# Altium integrated library TI Interface Optical Module IC.IntLib: 48 symbols (part 2 of 4)
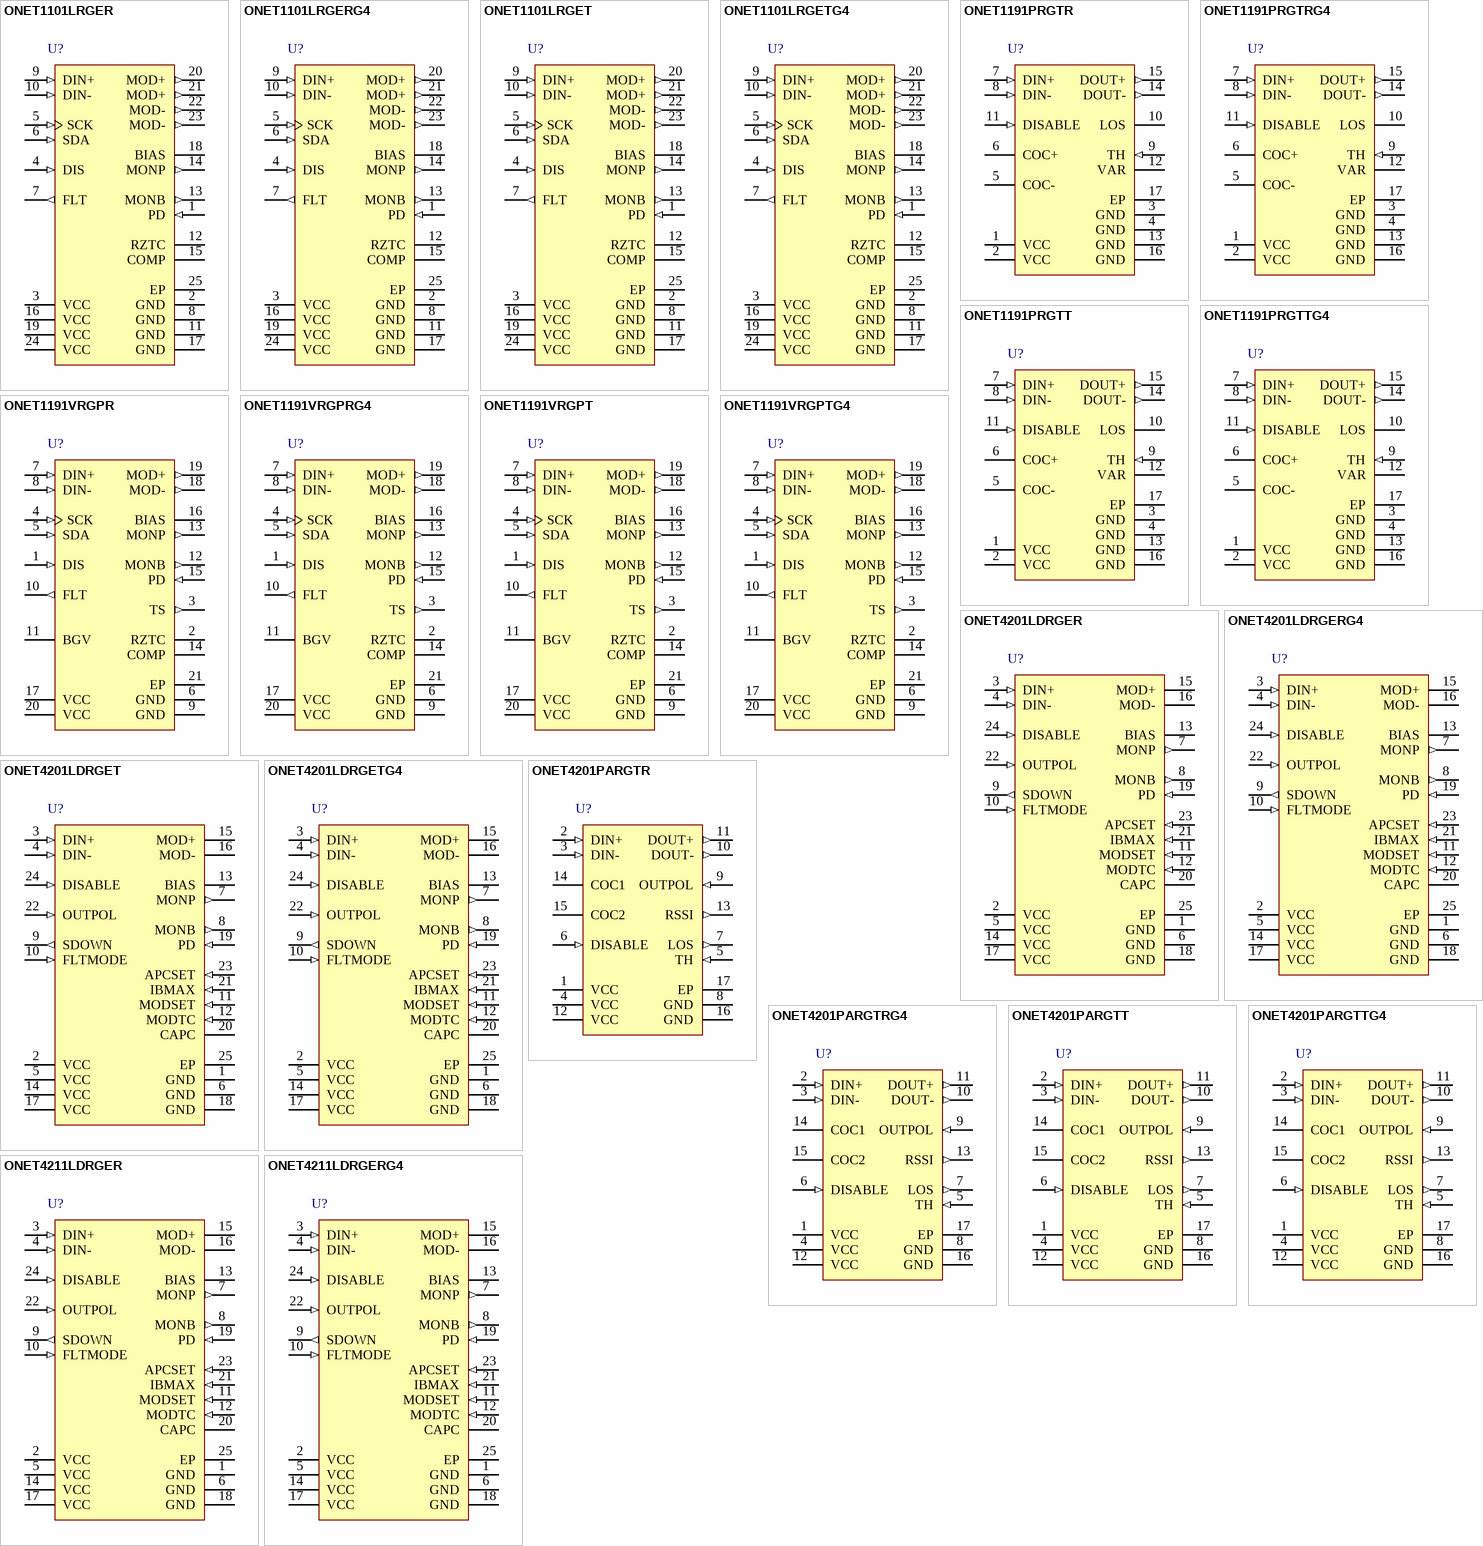
[diagram p2: symbols ONET1101LRGER to ONET4211LDRGERG4]

## ONET4201LDRGET
designator U?
155 Mbps to 4.25 Gbps Laser Driver with Active Back Termination, 85 mA Imod-Max, 3.3 V, -40 to +85 degC, 24-pin VQFN (RGE), Green (RoHS & no Sb/Br); Manufacturer: Texas Instruments; PartNumber: ONET4201LDRGET; Automatic Power Control Loop: TRUE; Data Rate(Typ)(Gbps): 0.155 to 4.25; DJ(Typ)(ps): 13; Ibias-max(Max)(mA): 100; ICC(Max)(mA): 55; ICC(Typ)(mA): 32; Imod-max(Max)(mA): 85; VCC(V): 3.3; DatasheetVersion: SLLS677A; PackageVersion: revG, Jul-2011; PackageReference: RGE24-2450X2450TP; PackageDescription: 24-Pin Plastic Quad Flatpack No-Lead, 4 x 4 mm Body, 0.5 mm Pitch; Supplier 1: Digi-Key; Supplier Part Number 1: 296-19278-2-ND; Supplier 2: Digi-Key; Supplier Part Number 2: 296-19278-1-ND; Supplier 3: Digi-Key; Supplier Part Number 3: 296-19278-6-ND; Supplier 4: Newark; Supplier Part Number 4: 67K8165; Supplier 5: Mouser; Supplier Part Number 5: 595-ONET4201LDRGET; Bias Current Digital Select: TRUE; Eco-Plan: Green (RoHS & no Sb/Br); Modulation Current Digital Select: TRUE; SubFamily: Laser Driver; Tf-out(Typ)(ps): 55; Tr-out(Typ)(ps): 55; Mounting Technology: Surface Mount; Code_JEDEC: MO-220; ComponentLink1Description: Datasheet; ComponentLink1URL: http://www.ti.com/general/docs/lit/getliterature.tsp?genericPartNumber=ONET4201LD&fileType=pdf; ComponentLink2Description: URL Link1; ComponentLink2URL: SamplesURL:http://www.ti.com/product/onet4201ld#samples
footprint RGE24-2450X2450TP (QFN, 24-Leads, Body 4x4mm, Pitch 0.5mm, Thermal Pad 2.45x2.45mm, TI Recommended)
pins: 1 GND (power) "Circuit ground.", 2 VCC (power) "3.3 V +/-10% supply voltage.", 3 DIN+ (in) "Noninverted data input. On-chip, 50-ohm terminated to VCC.", 4 DIN- (in) "Inverted data input. On-chip, 50-ohm terminated to VCC.", 5 VCC (power) "3.3 V +/-10% supply voltage.", 6 GND (power) "Circuit ground.", 7 MONP (out) "Photodiode current monitor sources a current identical to the photodiode current.", 8 MONB (out) "Bias current monitor sources 1/68 of the bias current.", 9 SDOWN (out) "Fault detection flag.", 10 FLTMODE (in) "Fault mode selection input. If a low level is applied to this pin, any fault event is latched and the bias and modulation currents are disabled in a fault condition. Toggling of DISABLE or VCC resets the fault condition. If (See Datasheet)", 11 MODSET (in) "Set temperature-independent modulation current with resistor to GND.", 12 MODTC (in) "Set modulation-current temperature compensation with resistor to GND.", 13 BIAS "Laser diode bias current sink. Connect to laser cathode.", 14 VCC (power) "3.3 V +/-10% supply voltage.", 15 MOD+ (oc) "Laser modulation current output. Connect to laser cathode. Avoid usage of vias on board.", 16 MOD- (oc) "Complementary laser modulation current output. Connect to VCC adjacent to anode of laser diode. Avoid usage of vias on board.", 17 VCC (power) "3.3 V +/-10% supply voltage.", 18 GND (power) "Circuit ground.", 19 PD (in) "Monitor photodiode input. Connect to photodiode anode for APC. Sinks the photodiode current to GND.", 20 CAPC "APC loop capacitor.", 21 IBMAX (in) "Set maximum laser diode current with resistor to GND.", 22 OUTPOL (in) "Alters modulation current output polarity. Open or high: normal polarity, low: inverted polarity. OUTPOL is pulled up internally. Normal polarity: when DIN+ is high, current is sunk into MOD+.", 23 APCSET (in) "Set photodiode reference current with resistor to GND.", 24 DISABLE (in) "Disable modulation and bias current outputs.", 25 EP (power) "The exposed die pad (EP) must be grounded."

## ONET4201LDRGETG4
designator U?
155 Mbps to 4.25 Gbps Laser Driver with Active Back Termination, 85 mA Imod-Max, 3.3 V, -40 to +85 degC, 24-pin VQFN (RGE), Green (RoHS & no Sb/Br); Manufacturer: Texas Instruments; PartNumber: ONET4201LDRGETG4; Automatic Power Control Loop: TRUE; Data Rate(Typ)(Gbps): 0.155 to 4.25; DJ(Typ)(ps): 13; Ibias-max(Max)(mA): 100; ICC(Max)(mA): 55; ICC(Typ)(mA): 32; Imod-max(Max)(mA): 85; VCC(V): 3.3; DatasheetVersion: SLLS677A; PackageVersion: revG, Jul-2011; PackageReference: RGE24-2450X2450TP; PackageDescription: 24-Pin Plastic Quad Flatpack No-Lead, 4 x 4 mm Body, 0.5 mm Pitch; Supplier 1: Digi-Key; Supplier Part Number 1: ONET4201LDRGETG4-ND; Supplier 2: Newark; Supplier Part Number 2: 70K4060; Supplier 3: Mouser; Supplier Part Number 3: 595-ONET4201LDRGETG4; Bias Current Digital Select: TRUE; Eco-Plan: Green (RoHS & no Sb/Br); Modulation Current Digital Select: TRUE; SubFamily: Laser Driver; Tf-out(Typ)(ps): 55; Tr-out(Typ)(ps): 55; Mounting Technology: Surface Mount; Code_JEDEC: MO-220; ComponentLink1Description: Datasheet; ComponentLink1URL: http://www.ti.com/general/docs/lit/getliterature.tsp?genericPartNumber=ONET4201LD&fileType=pdf; ComponentLink2Description: URL Link1; ComponentLink2URL: SamplesURL:http://www.ti.com/product/onet4201ld#samples
footprint RGE24-2450X2450TP (QFN, 24-Leads, Body 4x4mm, Pitch 0.5mm, Thermal Pad 2.45x2.45mm, TI Recommended)
pins: 1 GND (power) "Circuit ground.", 2 VCC (power) "3.3 V +/-10% supply voltage.", 3 DIN+ (in) "Noninverted data input. On-chip, 50-ohm terminated to VCC.", 4 DIN- (in) "Inverted data input. On-chip, 50-ohm terminated to VCC.", 5 VCC (power) "3.3 V +/-10% supply voltage.", 6 GND (power) "Circuit ground.", 7 MONP (out) "Photodiode current monitor sources a current identical to the photodiode current.", 8 MONB (out) "Bias current monitor sources 1/68 of the bias current.", 9 SDOWN (out) "Fault detection flag.", 10 FLTMODE (in) "Fault mode selection input. If a low level is applied to this pin, any fault event is latched and the bias and modulation currents are disabled in a fault condition. Toggling of DISABLE or VCC resets the fault condition. If (See Datasheet)", 11 MODSET (in) "Set temperature-independent modulation current with resistor to GND.", 12 MODTC (in) "Set modulation-current temperature compensation with resistor to GND.", 13 BIAS "Laser diode bias current sink. Connect to laser cathode.", 14 VCC (power) "3.3 V +/-10% supply voltage.", 15 MOD+ (oc) "Laser modulation current output. Connect to laser cathode. Avoid usage of vias on board.", 16 MOD- (oc) "Complementary laser modulation current output. Connect to VCC adjacent to anode of laser diode. Avoid usage of vias on board.", 17 VCC (power) "3.3 V +/-10% supply voltage.", 18 GND (power) "Circuit ground.", 19 PD (in) "Monitor photodiode input. Connect to photodiode anode for APC. Sinks the photodiode current to GND.", 20 CAPC "APC loop capacitor.", 21 IBMAX (in) "Set maximum laser diode current with resistor to GND.", 22 OUTPOL (in) "Alters modulation current output polarity. Open or high: normal polarity, low: inverted polarity. OUTPOL is pulled up internally. Normal polarity: when DIN+ is high, current is sunk into MOD+.", 23 APCSET (in) "Set photodiode reference current with resistor to GND.", 24 DISABLE (in) "Disable modulation and bias current outputs.", 25 EP (power) "The exposed die pad (EP) must be grounded."

## ONET4201PARGTR
designator U?
155 Mbps to 4.25 Gbps Limiting Amplifier with LOS and RSSI, 50dB, -40 to 85 degC, 16-Pin QFN (RGT), Green (RoHS & no Sb/Br); Manufacturer: Texas Instruments; PartNumber: ONET4201PARGTR; Data Rate(Typ)(Gbps): 0.155 - 4.25; Disable: TRUE; DJ(Typ)(ps): 3; Gain(Typ)(dB): 50; ICC(Max)(mA): 45; ICC(Nom)(mA): 27; RJ(Max)(ps): 4; VCC(V): 3.3; Vin Max(Min)(mV p-p): 1200; Vin Min(Nom)(mV p-p): 5; DatasheetVersion: SLLS652; PackageVersion: revH, Oct-2011; PackageReference: RGT16-1450X1450TP; PackageDescription: 16-Pin Plastic Quad Flat No-Lead, 3 x 3 mm Body, 0.5 mm Pitch, 1.45 x 1.45 mm Exposed Pad; Supplier 1: Digi-Key; Supplier Part Number 1: 296-19279-2-ND; Supplier 2: Digi-Key; Supplier Part Number 2: 296-19279-1-ND; Supplier 3: Digi-Key; Supplier Part Number 3: 296-19279-6-ND; Supplier 4: Newark; Supplier Part Number 4: 70K4061; Supplier 5: Mouser; Supplier Part Number 5: 595-ONET4201PARGTR; Eco-Plan: Green (RoHS & no Sb/Br); LOS: TRUE; SubFamily: Limiting Amplifier; tf(Typ)(ps): 45; tr(Typ)(ps): 45; Mounting Technology: Surface Mount; Code_JEDEC: MO-220; ComponentLink1Description: Datasheet; ComponentLink1URL: http://www.ti.com/general/docs/lit/getliterature.tsp?genericPartNumber=ONET4201PA&fileType=pdf; ComponentLink2Description: URL Link1; ComponentLink2URL: SamplesURL:http://www.ti.com/product/onet4201pa#samples
footprint RGT16-1450X1450TP (QFN, 16-Leads, Body 3x3mm, Pitch 0.5mm, Thermal Pad 1.45x1.45mm, TI Recommended)
pins: 1 VCC (power) "3.3-V +/- 10% supply voltage", 2 DIN+ (in) "Non-inverted data input. On-chip 50-ohm terminated to VCC.", 3 DIN- (in) "Inverted data input. On-chip 50-ohm terminated to VCC.", 4 VCC (power) "3.3-V +/- 10% supply voltage", 5 TH (in) "LOS threshold adjustment with resistor to GND.", 6 DISABLE (in) "Disables CML output stage when set to high level.", 7 LOS (out) "High level indicates that the input signal amplitude is below the programmed threshold level.", 8 GND (power) "Circuit ground.", 9 OUTPOL (in) "Output data signal polarity select (internally pulled high). Setting to a high level or leaving the pin open selects normal polarity. Low level selects inverted polarity.", 10 DOUT- (out) "Inverted data output. On-chip 50-ohm back-terminated toVCC.", 11 DOUT+ (out) "Non-inverted data output. On-chip 50-ohm back-terminated to VCC.", 12 VCC (power) "3.3-V +/- 10% supply voltage", 13 RSSI (out) "Analog output voltage proportional to the input data amplitude. Indicates the strength of the received signal (RSSI).", 14 COC1 "Offset cancellation filter capacitor terminal 1. Connect an additional filter capacitor between this pin and COC2 (pin 15). [see datasheet]", 15 COC2 "Offset cancellation filter capacitor terminal 2. Connect an additional filter capacitor between this pin and COC1 (pin 14). [see datasheet]", 16 GND (power) "Circuit ground.", 17 EP (power) "Exposed die pad (EP) must be grounded."

## ONET4201PARGTRG4
designator U?
155 Mbps to 4.25 Gbps Limiting Amplifier with LOS and RSSI, 50dB, -40 to 85 degC, 16-Pin QFN (RGT), Green (RoHS & no Sb/Br); Manufacturer: Texas Instruments; PartNumber: ONET4201PARGTRG4; Data Rate(Typ)(Gbps): 0.155 - 4.25; Disable: TRUE; DJ(Typ)(ps): 3; Gain(Typ)(dB): 50; ICC(Max)(mA): 45; ICC(Nom)(mA): 27; RJ(Max)(ps): 4; VCC(V): 3.3; Vin Max(Min)(mV p-p): 1200; Vin Min(Nom)(mV p-p): 5; DatasheetVersion: SLLS652; PackageVersion: revH, Oct-2011; PackageReference: RGT16-1450X1450TP; PackageDescription: 16-Pin Plastic Quad Flat No-Lead, 3 x 3 mm Body, 0.5 mm Pitch, 1.45 x 1.45 mm Exposed Pad; Supplier 1: Digi-Key; Supplier Part Number 1: ONET4201PARGTRG4-ND; Supplier 2: Newark; Supplier Part Number 2: 73K9230; Supplier 3: Mouser; Supplier Part Number 3: 595-ONET4201PARGTRG4; Eco-Plan: Green (RoHS & no Sb/Br); LOS: TRUE; SubFamily: Limiting Amplifier; tf(Typ)(ps): 45; tr(Typ)(ps): 45; Mounting Technology: Surface Mount; Code_JEDEC: MO-220; ComponentLink1Description: Datasheet; ComponentLink1URL: http://www.ti.com/general/docs/lit/getliterature.tsp?genericPartNumber=ONET4201PA&fileType=pdf; ComponentLink2Description: URL Link1; ComponentLink2URL: SamplesURL:http://www.ti.com/product/onet4201pa#samples
footprint RGT16-1450X1450TP (QFN, 16-Leads, Body 3x3mm, Pitch 0.5mm, Thermal Pad 1.45x1.45mm, TI Recommended)
pins: 1 VCC (power) "3.3-V +/- 10% supply voltage", 2 DIN+ (in) "Non-inverted data input. On-chip 50-ohm terminated to VCC.", 3 DIN- (in) "Inverted data input. On-chip 50-ohm terminated to VCC.", 4 VCC (power) "3.3-V +/- 10% supply voltage", 5 TH (in) "LOS threshold adjustment with resistor to GND.", 6 DISABLE (in) "Disables CML output stage when set to high level.", 7 LOS (out) "High level indicates that the input signal amplitude is below the programmed threshold level.", 8 GND (power) "Circuit ground.", 9 OUTPOL (in) "Output data signal polarity select (internally pulled high). Setting to a high level or leaving the pin open selects normal polarity. Low level selects inverted polarity.", 10 DOUT- (out) "Inverted data output. On-chip 50-ohm back-terminated toVCC.", 11 DOUT+ (out) "Non-inverted data output. On-chip 50-ohm back-terminated to VCC.", 12 VCC (power) "3.3-V +/- 10% supply voltage", 13 RSSI (out) "Analog output voltage proportional to the input data amplitude. Indicates the strength of the received signal (RSSI).", 14 COC1 "Offset cancellation filter capacitor terminal 1. Connect an additional filter capacitor between this pin and COC2 (pin 15). [see datasheet]", 15 COC2 "Offset cancellation filter capacitor terminal 2. Connect an additional filter capacitor between this pin and COC1 (pin 14). [see datasheet]", 16 GND (power) "Circuit ground.", 17 EP (power) "Exposed die pad (EP) must be grounded."

## ONET4201PARGTT
designator U?
155 Mbps to 4.25 Gbps Limiting Amplifier with LOS and RSSI, 50dB, -40 to 85 degC, 16-Pin QFN (RGT), Green (RoHS & no Sb/Br); Manufacturer: Texas Instruments; PartNumber: ONET4201PARGTT; Data Rate(Typ)(Gbps): 0.155 - 4.25; Disable: TRUE; DJ(Typ)(ps): 3; Gain(Typ)(dB): 50; ICC(Max)(mA): 45; ICC(Nom)(mA): 27; RJ(Max)(ps): 4; VCC(V): 3.3; Vin Max(Min)(mV p-p): 1200; Vin Min(Nom)(mV p-p): 5; DatasheetVersion: SLLS652; PackageVersion: revH, Oct-2011; PackageReference: RGT16-1450X1450TP; PackageDescription: 16-Pin Plastic Quad Flat No-Lead, 3 x 3 mm Body, 0.5 mm Pitch, 1.45 x 1.45 mm Exposed Pad; Supplier 1: Digi-Key; Supplier Part Number 1: ONET4201PARGTT-ND; Supplier 2: Newark; Supplier Part Number 2: 70K4062; Supplier 3: Mouser; Supplier Part Number 3: 595-ONET4201PARGTT; Eco-Plan: Green (RoHS & no Sb/Br); LOS: TRUE; SubFamily: Limiting Amplifier; tf(Typ)(ps): 45; tr(Typ)(ps): 45; Mounting Technology: Surface Mount; Code_JEDEC: MO-220; ComponentLink1Description: Datasheet; ComponentLink1URL: http://www.ti.com/general/docs/lit/getliterature.tsp?genericPartNumber=ONET4201PA&fileType=pdf; ComponentLink2Description: URL Link1; ComponentLink2URL: SamplesURL:http://www.ti.com/product/onet4201pa#samples
footprint RGT16-1450X1450TP (QFN, 16-Leads, Body 3x3mm, Pitch 0.5mm, Thermal Pad 1.45x1.45mm, TI Recommended)
pins: 1 VCC (power) "3.3-V +/- 10% supply voltage", 2 DIN+ (in) "Non-inverted data input. On-chip 50-ohm terminated to VCC.", 3 DIN- (in) "Inverted data input. On-chip 50-ohm terminated to VCC.", 4 VCC (power) "3.3-V +/- 10% supply voltage", 5 TH (in) "LOS threshold adjustment with resistor to GND.", 6 DISABLE (in) "Disables CML output stage when set to high level.", 7 LOS (out) "High level indicates that the input signal amplitude is below the programmed threshold level.", 8 GND (power) "Circuit ground.", 9 OUTPOL (in) "Output data signal polarity select (internally pulled high). Setting to a high level or leaving the pin open selects normal polarity. Low level selects inverted polarity.", 10 DOUT- (out) "Inverted data output. On-chip 50-ohm back-terminated toVCC.", 11 DOUT+ (out) "Non-inverted data output. On-chip 50-ohm back-terminated to VCC.", 12 VCC (power) "3.3-V +/- 10% supply voltage", 13 RSSI (out) "Analog output voltage proportional to the input data amplitude. Indicates the strength of the received signal (RSSI).", 14 COC1 "Offset cancellation filter capacitor terminal 1. Connect an additional filter capacitor between this pin and COC2 (pin 15). [see datasheet]", 15 COC2 "Offset cancellation filter capacitor terminal 2. Connect an additional filter capacitor between this pin and COC1 (pin 14). [see datasheet]", 16 GND (power) "Circuit ground.", 17 EP (power) "Exposed die pad (EP) must be grounded."

## ONET4201PARGTTG4
designator U?
155 Mbps to 4.25 Gbps Limiting Amplifier with LOS and RSSI, 50dB, -40 to 85 degC, 16-Pin QFN (RGT), Green (RoHS & no Sb/Br); Manufacturer: Texas Instruments; PartNumber: ONET4201PARGTTG4; Data Rate(Typ)(Gbps): 0.155 - 4.25; Disable: TRUE; DJ(Typ)(ps): 3; Gain(Typ)(dB): 50; ICC(Max)(mA): 45; ICC(Nom)(mA): 27; RJ(Max)(ps): 4; VCC(V): 3.3; Vin Max(Min)(mV p-p): 1200; Vin Min(Nom)(mV p-p): 5; DatasheetVersion: SLLS652; PackageVersion: revH, Oct-2011; PackageReference: RGT16-1450X1450TP; PackageDescription: 16-Pin Plastic Quad Flat No-Lead, 3 x 3 mm Body, 0.5 mm Pitch, 1.45 x 1.45 mm Exposed Pad; Supplier 1: Digi-Key; Supplier Part Number 1: ONET4201PARGTTG4-ND; Supplier 2: Newark; Supplier Part Number 2: 73K9231; Supplier 3: Mouser; Supplier Part Number 3: 595-ONET4201PARGTTG4; Eco-Plan: Green (RoHS & no Sb/Br); LOS: TRUE; SubFamily: Limiting Amplifier; tf(Typ)(ps): 45; tr(Typ)(ps): 45; Mounting Technology: Surface Mount; Code_JEDEC: MO-220; ComponentLink1Description: Datasheet; ComponentLink1URL: http://www.ti.com/general/docs/lit/getliterature.tsp?genericPartNumber=ONET4201PA&fileType=pdf; ComponentLink2Description: URL Link1; ComponentLink2URL: SamplesURL:http://www.ti.com/product/onet4201pa#samples
footprint RGT16-1450X1450TP (QFN, 16-Leads, Body 3x3mm, Pitch 0.5mm, Thermal Pad 1.45x1.45mm, TI Recommended)
pins: 1 VCC (power) "3.3-V +/- 10% supply voltage", 2 DIN+ (in) "Non-inverted data input. On-chip 50-ohm terminated to VCC.", 3 DIN- (in) "Inverted data input. On-chip 50-ohm terminated to VCC.", 4 VCC (power) "3.3-V +/- 10% supply voltage", 5 TH (in) "LOS threshold adjustment with resistor to GND.", 6 DISABLE (in) "Disables CML output stage when set to high level.", 7 LOS (out) "High level indicates that the input signal amplitude is below the programmed threshold level.", 8 GND (power) "Circuit ground.", 9 OUTPOL (in) "Output data signal polarity select (internally pulled high). Setting to a high level or leaving the pin open selects normal polarity. Low level selects inverted polarity.", 10 DOUT- (out) "Inverted data output. On-chip 50-ohm back-terminated toVCC.", 11 DOUT+ (out) "Non-inverted data output. On-chip 50-ohm back-terminated to VCC.", 12 VCC (power) "3.3-V +/- 10% supply voltage", 13 RSSI (out) "Analog output voltage proportional to the input data amplitude. Indicates the strength of the received signal (RSSI).", 14 COC1 "Offset cancellation filter capacitor terminal 1. Connect an additional filter capacitor between this pin and COC2 (pin 15). [see datasheet]", 15 COC2 "Offset cancellation filter capacitor terminal 2. Connect an additional filter capacitor between this pin and COC1 (pin 14). [see datasheet]", 16 GND (power) "Circuit ground.", 17 EP (power) "Exposed die pad (EP) must be grounded."

## ONET4211LDRGER
designator U?
155 Mbps to 4.25 Gbps Laser Driver, 85 mA Imod-Max, 3.3 V, -40 to +85 degC, 24-pin VQFN (RGE), Green (RoHS & no Sb/Br); Manufacturer: Texas Instruments; PartNumber: ONET4211LDRGER; Automatic Power Control Loop: TRUE; Data Rate(Typ)(Gbps): 0.155 to 4.25; DJ(Typ)(ps): 13; Ibias-max(Max)(mA): 100; ICC(Max)(mA): 45; ICC(Typ)(mA): 22; Imod-max(Max)(mA): 85; Tf-out(Typ)(ps): 55; VCC(V): 3.3; DatasheetVersion: SLLS688A; PackageVersion: revG, Jul-2011; PackageReference: RGE24-2450X2450TP; PackageDescription: 24-Pin Plastic Quad Flatpack No-Lead, 4 x 4 mm Body, 0.5 mm Pitch; Supplier 1: Digi-Key; Supplier Part Number 1: ONET4211LDRGER-ND; Supplier 2: Newark; Supplier Part Number 2: 67K8166; Supplier 3: Mouser; Supplier Part Number 3: 595-ONET4211LDRGER; Bias Current Digital Select: TRUE; Eco-Plan: Green (RoHS & no Sb/Br); Modulation Current Digital Select: TRUE; SubFamily: Laser Driver; Tr-out(Typ)(ps): 55; Mounting Technology: Surface Mount; Code_JEDEC: MO-220; ComponentLink1Description: Datasheet; ComponentLink1URL: http://www.ti.com/general/docs/lit/getliterature.tsp?genericPartNumber=ONET4211LD&fileType=pdf; ComponentLink2Description: URL Link1; ComponentLink2URL: SamplesURL:http://www.ti.com/product/onet4211ld#samples
footprint RGE24-2450X2450TP (QFN, 24-Leads, Body 4x4mm, Pitch 0.5mm, Thermal Pad 2.45x2.45mm, TI Recommended)
pins: 1 GND (power) "Circuit ground.", 2 VCC (power) "3.3-V, +/-10% supply voltage", 3 DIN+ (in) "Non-inverted data input. On-chip, 50-ohm terminated to VCC.", 4 DIN- (in) "Inverted data input. On-chip, 50-ohm terminated to VCC.", 5 VCC (power) "3.3-V, +/-10% supply voltage", 6 GND (power) "Circuit ground.", 7 MONP (out) "Photodiode current monitor. Sources a current identical to the photodiode current.", 8 MONB (out) "Bias current monitor. Sources 1/68 of the bias current.", 9 SDOWN (out) "Fault detection flag", 10 FLTMODE (in) "Fault mode selection input. If a low level is applied to this pin, any fault event is latched and the bias and modulation currents are disabled in a fault condition. Toggling of DISABLE or VCC resets the fault condition. If (See Datasheet)", 11 MODSET (in) "Set temperature-independent modulation current with resistor to GND.", 12 MODTC (in) "Set modulation-current temperature compensation with resistor to GND.", 13 BIAS "Laser-diode bias-current sink. Connect to laser cathode.", 14 VCC (power) "3.3-V, +/-10% supply voltage", 15 MOD+ (oc) "Laser modulation current output. Connect to laser cathode. Avoid usage of vias on board.", 16 MOD- (oc) "Complementary laser modulation current output. Connect to VCC adjacent to anode of laser diode. Avoid usage of vias on board.", 17 VCC (power) "3.3-V, +/-10% supply voltage", 18 GND (power) "Circuit ground.", 19 PD (in) "Monitor photodiode input. Connect to photodiode anode for APC. Sinks the photodiode current to GND.", 20 CAPC "APC loop capacitor", 21 IBMAX (in) "Set maximum laser diode current with resistor to GND.", 22 OUTPOL (in) "Alters modulation current output polarity. Open or high: normal polarity; low: inverted polarity. OUTPOL is pulled up internally. Normal polarity: when DIN+ is high, current is sunk into MOD+.", 23 APCSET (in) "Set photodiode reference current with resistor to GND.", 24 DISABLE (in) "Disable modulation and bias-current outputs.", 25 EP (power) "The exposed die pad (EP) must be grounded."

## ONET4211LDRGERG4
designator U?
155 Mbps to 4.25 Gbps Laser Driver, 85 mA Imod-Max, 3.3 V, -40 to +85 degC, 24-pin VQFN (RGE), Green (RoHS & no Sb/Br); Manufacturer: Texas Instruments; PartNumber: ONET4211LDRGERG4; Automatic Power Control Loop: TRUE; Data Rate(Typ)(Gbps): 0.155 to 4.25; DJ(Typ)(ps): 13; Ibias-max(Max)(mA): 100; ICC(Max)(mA): 45; ICC(Typ)(mA): 22; Imod-max(Max)(mA): 85; Tf-out(Typ)(ps): 55; VCC(V): 3.3; DatasheetVersion: SLLS688A; PackageVersion: revG, Jul-2011; PackageReference: RGE24-2450X2450TP; PackageDescription: 24-Pin Plastic Quad Flatpack No-Lead, 4 x 4 mm Body, 0.5 mm Pitch; Supplier 1: Digi-Key; Supplier Part Number 1: ONET4211LDRGERG4-ND; Supplier 2: Newark; Supplier Part Number 2: 70K4063; Supplier 3: Mouser; Supplier Part Number 3: 595-ONET4211LDRGERG4; Bias Current Digital Select: TRUE; Eco-Plan: Green (RoHS & no Sb/Br); Modulation Current Digital Select: TRUE; SubFamily: Laser Driver; Tr-out(Typ)(ps): 55; Mounting Technology: Surface Mount; Code_JEDEC: MO-220; ComponentLink1Description: Datasheet; ComponentLink1URL: http://www.ti.com/general/docs/lit/getliterature.tsp?genericPartNumber=ONET4211LD&fileType=pdf; ComponentLink2Description: URL Link1; ComponentLink2URL: SamplesURL:http://www.ti.com/product/onet4211ld#samples
footprint RGE24-2450X2450TP (QFN, 24-Leads, Body 4x4mm, Pitch 0.5mm, Thermal Pad 2.45x2.45mm, TI Recommended)
pins: 1 GND (power) "Circuit ground.", 2 VCC (power) "3.3-V, +/-10% supply voltage", 3 DIN+ (in) "Non-inverted data input. On-chip, 50-ohm terminated to VCC.", 4 DIN- (in) "Inverted data input. On-chip, 50-ohm terminated to VCC.", 5 VCC (power) "3.3-V, +/-10% supply voltage", 6 GND (power) "Circuit ground.", 7 MONP (out) "Photodiode current monitor. Sources a current identical to the photodiode current.", 8 MONB (out) "Bias current monitor. Sources 1/68 of the bias current.", 9 SDOWN (out) "Fault detection flag", 10 FLTMODE (in) "Fault mode selection input. If a low level is applied to this pin, any fault event is latched and the bias and modulation currents are disabled in a fault condition. Toggling of DISABLE or VCC resets the fault condition. If (See Datasheet)", 11 MODSET (in) "Set temperature-independent modulation current with resistor to GND.", 12 MODTC (in) "Set modulation-current temperature compensation with resistor to GND.", 13 BIAS "Laser-diode bias-current sink. Connect to laser cathode.", 14 VCC (power) "3.3-V, +/-10% supply voltage", 15 MOD+ (oc) "Laser modulation current output. Connect to laser cathode. Avoid usage of vias on board.", 16 MOD- (oc) "Complementary laser modulation current output. Connect to VCC adjacent to anode of laser diode. Avoid usage of vias on board.", 17 VCC (power) "3.3-V, +/-10% supply voltage", 18 GND (power) "Circuit ground.", 19 PD (in) "Monitor photodiode input. Connect to photodiode anode for APC. Sinks the photodiode current to GND.", 20 CAPC "APC loop capacitor", 21 IBMAX (in) "Set maximum laser diode current with resistor to GND.", 22 OUTPOL (in) "Alters modulation current output polarity. Open or high: normal polarity; low: inverted polarity. OUTPOL is pulled up internally. Normal polarity: when DIN+ is high, current is sunk into MOD+.", 23 APCSET (in) "Set photodiode reference current with resistor to GND.", 24 DISABLE (in) "Disable modulation and bias-current outputs.", 25 EP (power) "The exposed die pad (EP) must be grounded."

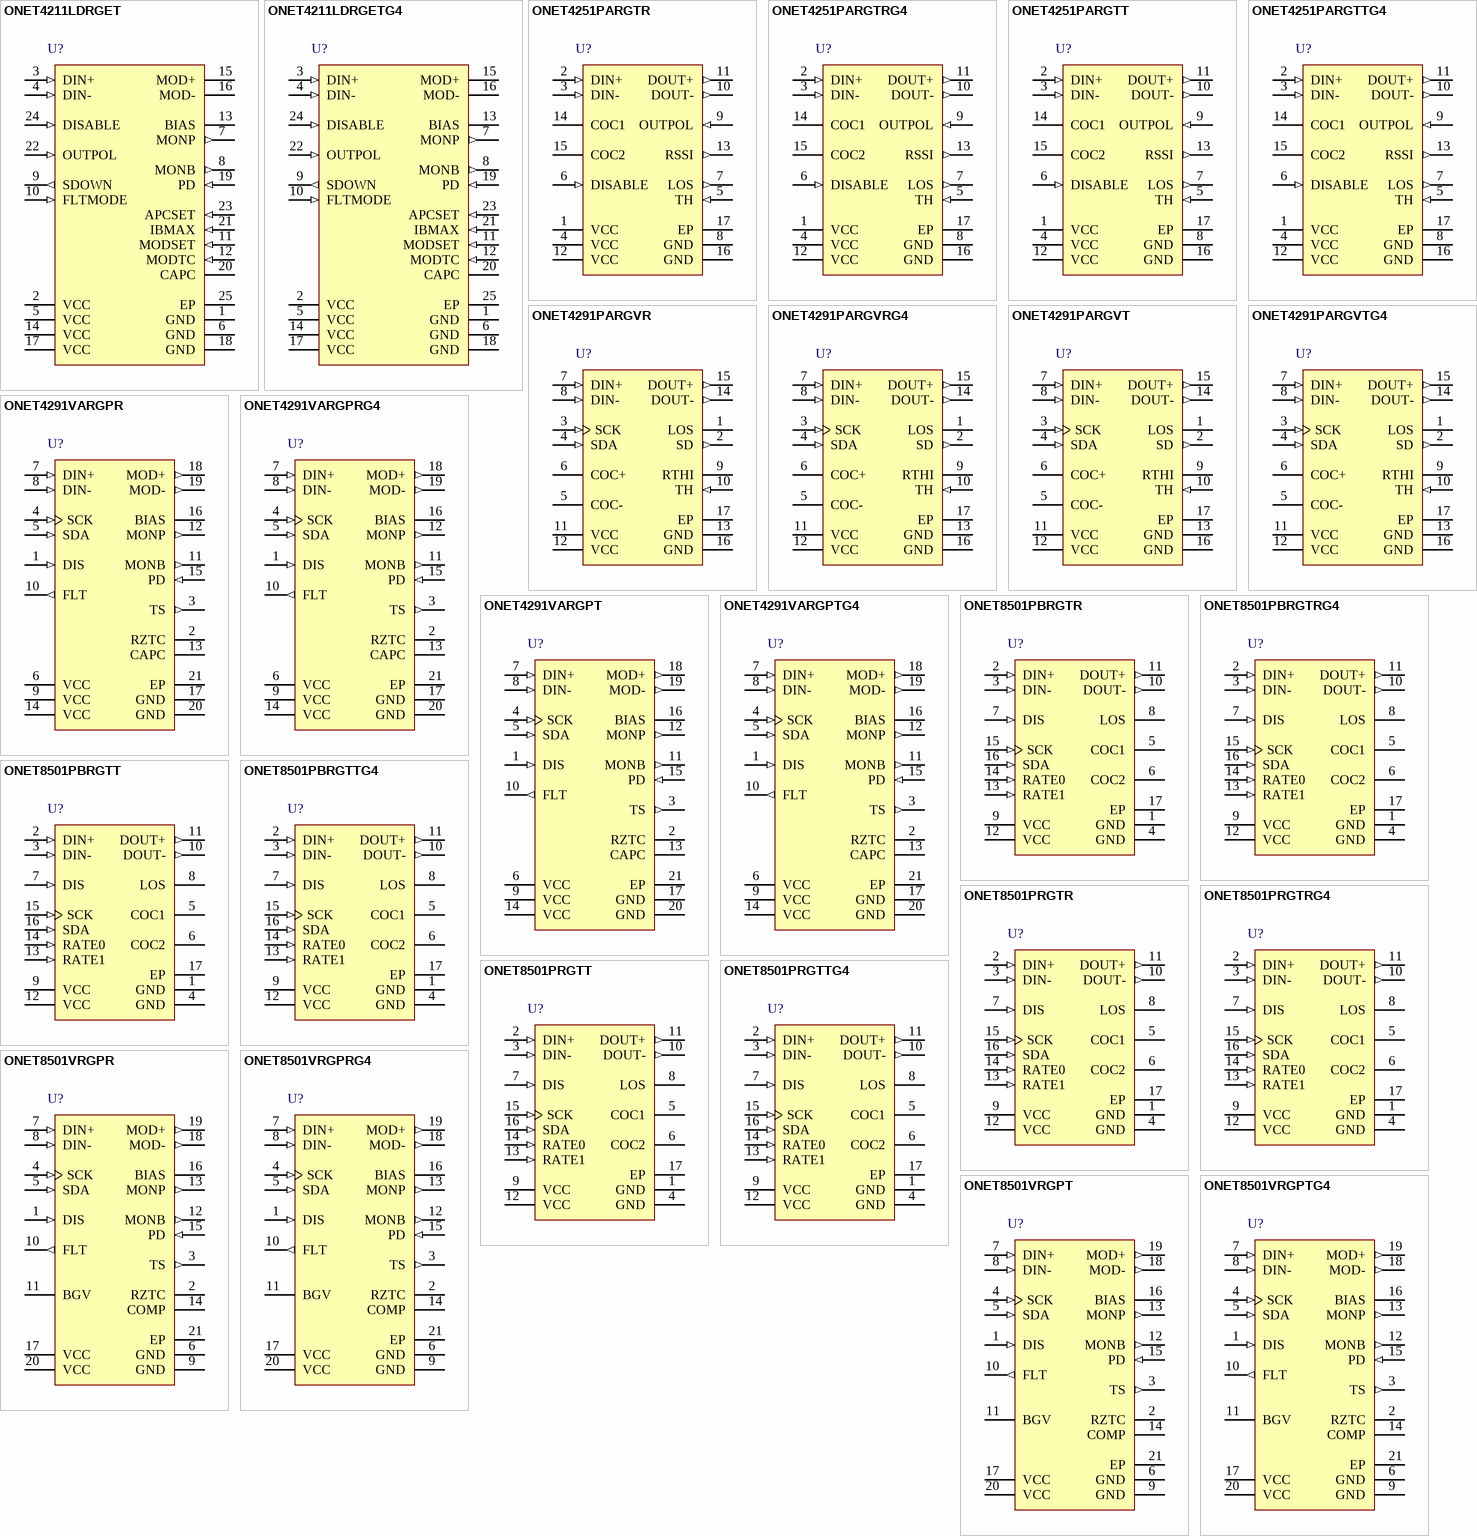
[diagram p1: symbols ONET4211LDRGET to ONET8501VRGPTG4]

## ONET4211LDRGET
designator U?
155 Mbps to 4.25 Gbps Laser Driver, 85 mA Imod-Max, 3.3 V, -40 to +85 degC, 24-pin VQFN (RGE), Green (RoHS & no Sb/Br); Manufacturer: Texas Instruments; PartNumber: ONET4211LDRGET; Automatic Power Control Loop: TRUE; Data Rate(Typ)(Gbps): 0.155 to 4.25; DJ(Typ)(ps): 13; Ibias-max(Max)(mA): 100; ICC(Max)(mA): 45; ICC(Typ)(mA): 22; Imod-max(Max)(mA): 85; Tf-out(Typ)(ps): 55; VCC(V): 3.3; DatasheetVersion: SLLS688A; PackageVersion: revG, Jul-2011; PackageReference: RGE24-2450X2450TP; PackageDescription: 24-Pin Plastic Quad Flatpack No-Lead, 4 x 4 mm Body, 0.5 mm Pitch; Supplier 1: Digi-Key; Supplier Part Number 1: 296-19280-2-ND; Supplier 2: Digi-Key; Supplier Part Number 2: 296-19280-1-ND; Supplier 3: Digi-Key; Supplier Part Number 3: 296-19280-6-ND; Supplier 4: Newark; Supplier Part Number 4: 67K8167; Supplier 5: Mouser; Supplier Part Number 5: 595-ONET4211LDRGET; Bias Current Digital Select: TRUE; Eco-Plan: Green (RoHS & no Sb/Br); Modulation Current Digital Select: TRUE; SubFamily: Laser Driver; Tr-out(Typ)(ps): 55; Mounting Technology: Surface Mount; Code_JEDEC: MO-220; ComponentLink1Description: Datasheet; ComponentLink1URL: http://www.ti.com/general/docs/lit/getliterature.tsp?genericPartNumber=ONET4211LD&fileType=pdf; ComponentLink2Description: URL Link1; ComponentLink2URL: SamplesURL:http://www.ti.com/product/onet4211ld#samples
footprint RGE24-2450X2450TP (QFN, 24-Leads, Body 4x4mm, Pitch 0.5mm, Thermal Pad 2.45x2.45mm, TI Recommended)
pins: 1 GND (power) "Circuit ground.", 2 VCC (power) "3.3-V, +/-10% supply voltage", 3 DIN+ (in) "Non-inverted data input. On-chip, 50-ohm terminated to VCC.", 4 DIN- (in) "Inverted data input. On-chip, 50-ohm terminated to VCC.", 5 VCC (power) "3.3-V, +/-10% supply voltage", 6 GND (power) "Circuit ground.", 7 MONP (out) "Photodiode current monitor. Sources a current identical to the photodiode current.", 8 MONB (out) "Bias current monitor. Sources 1/68 of the bias current.", 9 SDOWN (out) "Fault detection flag", 10 FLTMODE (in) "Fault mode selection input. If a low level is applied to this pin, any fault event is latched and the bias and modulation currents are disabled in a fault condition. Toggling of DISABLE or VCC resets the fault condition. If (See Datasheet)", 11 MODSET (in) "Set temperature-independent modulation current with resistor to GND.", 12 MODTC (in) "Set modulation-current temperature compensation with resistor to GND.", 13 BIAS "Laser-diode bias-current sink. Connect to laser cathode.", 14 VCC (power) "3.3-V, +/-10% supply voltage", 15 MOD+ (oc) "Laser modulation current output. Connect to laser cathode. Avoid usage of vias on board.", 16 MOD- (oc) "Complementary laser modulation current output. Connect to VCC adjacent to anode of laser diode. Avoid usage of vias on board.", 17 VCC (power) "3.3-V, +/-10% supply voltage", 18 GND (power) "Circuit ground.", 19 PD (in) "Monitor photodiode input. Connect to photodiode anode for APC. Sinks the photodiode current to GND.", 20 CAPC "APC loop capacitor", 21 IBMAX (in) "Set maximum laser diode current with resistor to GND.", 22 OUTPOL (in) "Alters modulation current output polarity. Open or high: normal polarity; low: inverted polarity. OUTPOL is pulled up internally. Normal polarity: when DIN+ is high, current is sunk into MOD+.", 23 APCSET (in) "Set photodiode reference current with resistor to GND.", 24 DISABLE (in) "Disable modulation and bias-current outputs.", 25 EP (power) "The exposed die pad (EP) must be grounded."

## ONET4211LDRGETG4
designator U?
155 Mbps to 4.25 Gbps Laser Driver, 85 mA Imod-Max, 3.3 V, -40 to +85 degC, 24-pin VQFN (RGE), Green (RoHS & no Sb/Br); Manufacturer: Texas Instruments; PartNumber: ONET4211LDRGETG4; Automatic Power Control Loop: TRUE; Data Rate(Typ)(Gbps): 0.155 to 4.25; DJ(Typ)(ps): 13; Ibias-max(Max)(mA): 100; ICC(Max)(mA): 45; ICC(Typ)(mA): 22; Imod-max(Max)(mA): 85; Tf-out(Typ)(ps): 55; VCC(V): 3.3; DatasheetVersion: SLLS688A; PackageVersion: revG, Jul-2011; PackageReference: RGE24-2450X2450TP; PackageDescription: 24-Pin Plastic Quad Flatpack No-Lead, 4 x 4 mm Body, 0.5 mm Pitch; Supplier 1: Digi-Key; Supplier Part Number 1: ONET4211LDRGETG4-ND; Supplier 2: Newark; Supplier Part Number 2: 70K4064; Supplier 3: Mouser; Supplier Part Number 3: 595-ONET4211LDRGETG4; Bias Current Digital Select: TRUE; Eco-Plan: Green (RoHS & no Sb/Br); Modulation Current Digital Select: TRUE; SubFamily: Laser Driver; Tr-out(Typ)(ps): 55; Mounting Technology: Surface Mount; Code_JEDEC: MO-220; ComponentLink1Description: Datasheet; ComponentLink1URL: http://www.ti.com/general/docs/lit/getliterature.tsp?genericPartNumber=ONET4211LD&fileType=pdf; ComponentLink2Description: URL Link1; ComponentLink2URL: SamplesURL:http://www.ti.com/product/onet4211ld#samples
footprint RGE24-2450X2450TP (QFN, 24-Leads, Body 4x4mm, Pitch 0.5mm, Thermal Pad 2.45x2.45mm, TI Recommended)
pins: 1 GND (power) "Circuit ground.", 2 VCC (power) "3.3-V, +/-10% supply voltage", 3 DIN+ (in) "Non-inverted data input. On-chip, 50-ohm terminated to VCC.", 4 DIN- (in) "Inverted data input. On-chip, 50-ohm terminated to VCC.", 5 VCC (power) "3.3-V, +/-10% supply voltage", 6 GND (power) "Circuit ground.", 7 MONP (out) "Photodiode current monitor. Sources a current identical to the photodiode current.", 8 MONB (out) "Bias current monitor. Sources 1/68 of the bias current.", 9 SDOWN (out) "Fault detection flag", 10 FLTMODE (in) "Fault mode selection input. If a low level is applied to this pin, any fault event is latched and the bias and modulation currents are disabled in a fault condition. Toggling of DISABLE or VCC resets the fault condition. If (See Datasheet)", 11 MODSET (in) "Set temperature-independent modulation current with resistor to GND.", 12 MODTC (in) "Set modulation-current temperature compensation with resistor to GND.", 13 BIAS "Laser-diode bias-current sink. Connect to laser cathode.", 14 VCC (power) "3.3-V, +/-10% supply voltage", 15 MOD+ (oc) "Laser modulation current output. Connect to laser cathode. Avoid usage of vias on board.", 16 MOD- (oc) "Complementary laser modulation current output. Connect to VCC adjacent to anode of laser diode. Avoid usage of vias on board.", 17 VCC (power) "3.3-V, +/-10% supply voltage", 18 GND (power) "Circuit ground.", 19 PD (in) "Monitor photodiode input. Connect to photodiode anode for APC. Sinks the photodiode current to GND.", 20 CAPC "APC loop capacitor", 21 IBMAX (in) "Set maximum laser diode current with resistor to GND.", 22 OUTPOL (in) "Alters modulation current output polarity. Open or high: normal polarity; low: inverted polarity. OUTPOL is pulled up internally. Normal polarity: when DIN+ is high, current is sunk into MOD+.", 23 APCSET (in) "Set photodiode reference current with resistor to GND.", 24 DISABLE (in) "Disable modulation and bias-current outputs.", 25 EP (power) "The exposed die pad (EP) must be grounded."

## ONET4251PARGTR
designator U?
1 Gbps to 4.25 Gbps Limiting Amplifier with LOS and RSSI, 50dB, -40 to 85 degC, 16-Pin QFN (RGT), Green (RoHS & no Sb/Br); Manufacturer: Texas Instruments; PartNumber: ONET4251PARGTR; Data Rate(Typ)(Gbps): 4.25; Disable: TRUE; DJ(Typ)(ps): 6; Gain(Typ)(dB): 50; ICC(Max)(mA): 40; ICC(Nom)(mA): 27; RJ(Max)(ps): 1; tf(Typ)(ps): 35; VCC(V): 3.3; Vin Max(Min)(mV p-p): 1200; DatasheetVersion: SLLS663A; PackageVersion: revH, Oct-2011; PackageReference: RGT16-1450X1450TP; PackageDescription: 16-Pin Plastic Quad Flat No-Lead, 3 x 3 mm Body, 0.5 mm Pitch, 1.45 x 1.45 mm Exposed Pad; Supplier 1: Digi-Key; Supplier Part Number 1: 296-19411-2-ND; Supplier 2: Digi-Key; Supplier Part Number 2: 296-19411-1-ND; Supplier 3: Digi-Key; Supplier Part Number 3: 296-19411-6-ND; Supplier 4: Newark; Supplier Part Number 4: 61K1312; Supplier 5: Mouser; Supplier Part Number 5: 595-ONET4251PARGTR; Eco-Plan: Green (RoHS & no Sb/Br); LOS: TRUE; SubFamily: Limiting Amplifier; tr(Typ)(ps): 35; Vin Min(Nom)(mV p-p): 50; Mounting Technology: Surface Mount; Code_JEDEC: MO-220; ComponentLink1Description: Datasheet; ComponentLink1URL: http://www.ti.com/general/docs/lit/getliterature.tsp?genericPartNumber=ONET4251PA&fileType=pdf; ComponentLink2Description: URL Link1; ComponentLink2URL: SamplesURL:http://www.ti.com/product/onet4251pa#samples
footprint RGT16-1450X1450TP (QFN, 16-Leads, Body 3x3mm, Pitch 0.5mm, Thermal Pad 1.45x1.45mm, TI Recommended)
pins: 1 VCC (power) "3.3-V +/-10% supply voltage", 2 DIN+ (in) "Non-inverted data input. On-chip 50-ohm terminated to VCC.", 3 DIN- (in) "Inverted data input. On-chip 50-ohm terminated to VCC.", 4 VCC (power) "3.3-V +/-10% supply voltage", 5 TH (in) "LOS threshold adjustment with resistor to GND.", 6 DISABLE (in) "Disables CML output stage when set to high level.", 7 LOS (out) "High level indicates that the input signal amplitude is below the programmed threshold level.", 8 GND (power) "Circuit ground.", 9 OUTPOL (in) "Output data signal polarity select (internally pulled high). Setting to a high level or leaving the pin open selects normal polarity. Low level selects inverted polarity.", 10 DOUT- (out) "Inverted data output. On-chip 50-ohm back-terminated to VCC.", 11 DOUT+ (out) "Non-inverted data input. On-chip 50-ohm terminated to VCC.", 12 VCC (power) "3.3-V +/-10% supply voltage", 13 RSSI (out) "Analog output voltage proportional to the input data amplitude. Indicates the strength of the received signal (RSSI).", 14 COC1 "Offset cancellation filter capacitor terminal 1. Connect an additional filter capacitor between this pin and COC2 (pin 15). [see datasheet]", 15 COC2 "Offset cancellation filter capacitor terminal 1. Connect an additional filter capacitor between this pin and COC1 (pin 14). [see datasheet]", 16 GND (power) "Circuit ground.", 17 EP (power) "Exposed Thermal Pad. Exposed die pad (EP) must be grounded."

## ONET4251PARGTRG4
designator U?
1 Gbps to 4.25 Gbps Limiting Amplifier with LOS and RSSI, 50dB, -40 to 85 degC, 16-Pin QFN (RGT), Green (RoHS & no Sb/Br); Manufacturer: Texas Instruments; PartNumber: ONET4251PARGTRG4; Data Rate(Typ)(Gbps): 4.25; Disable: TRUE; DJ(Typ)(ps): 6; Gain(Typ)(dB): 50; ICC(Max)(mA): 40; ICC(Nom)(mA): 27; RJ(Max)(ps): 1; tf(Typ)(ps): 35; VCC(V): 3.3; Vin Max(Min)(mV p-p): 1200; DatasheetVersion: SLLS663A; PackageVersion: revH, Oct-2011; PackageReference: RGT16-1450X1450TP; PackageDescription: 16-Pin Plastic Quad Flat No-Lead, 3 x 3 mm Body, 0.5 mm Pitch, 1.45 x 1.45 mm Exposed Pad; Supplier 1: Digi-Key; Supplier Part Number 1: ONET4251PARGTRG4-ND; Supplier 2: Newark; Supplier Part Number 2: 63K6039; Supplier 3: Mouser; Supplier Part Number 3: 595-ONET4251PARGTRG4; Eco-Plan: Green (RoHS & no Sb/Br); LOS: TRUE; SubFamily: Limiting Amplifier; tr(Typ)(ps): 35; Vin Min(Nom)(mV p-p): 50; Mounting Technology: Surface Mount; Code_JEDEC: MO-220; ComponentLink1Description: Datasheet; ComponentLink1URL: http://www.ti.com/general/docs/lit/getliterature.tsp?genericPartNumber=ONET4251PA&fileType=pdf; ComponentLink2Description: URL Link1; ComponentLink2URL: SamplesURL:http://www.ti.com/product/onet4251pa#samples
footprint RGT16-1450X1450TP (QFN, 16-Leads, Body 3x3mm, Pitch 0.5mm, Thermal Pad 1.45x1.45mm, TI Recommended)
pins: 1 VCC (power) "3.3-V +/-10% supply voltage", 2 DIN+ (in) "Non-inverted data input. On-chip 50-ohm terminated to VCC.", 3 DIN- (in) "Inverted data input. On-chip 50-ohm terminated to VCC.", 4 VCC (power) "3.3-V +/-10% supply voltage", 5 TH (in) "LOS threshold adjustment with resistor to GND.", 6 DISABLE (in) "Disables CML output stage when set to high level.", 7 LOS (out) "High level indicates that the input signal amplitude is below the programmed threshold level.", 8 GND (power) "Circuit ground.", 9 OUTPOL (in) "Output data signal polarity select (internally pulled high). Setting to a high level or leaving the pin open selects normal polarity. Low level selects inverted polarity.", 10 DOUT- (out) "Inverted data output. On-chip 50-ohm back-terminated to VCC.", 11 DOUT+ (out) "Non-inverted data input. On-chip 50-ohm terminated to VCC.", 12 VCC (power) "3.3-V +/-10% supply voltage", 13 RSSI (out) "Analog output voltage proportional to the input data amplitude. Indicates the strength of the received signal (RSSI).", 14 COC1 "Offset cancellation filter capacitor terminal 1. Connect an additional filter capacitor between this pin and COC2 (pin 15). [see datasheet]", 15 COC2 "Offset cancellation filter capacitor terminal 1. Connect an additional filter capacitor between this pin and COC1 (pin 14). [see datasheet]", 16 GND (power) "Circuit ground.", 17 EP (power) "Exposed Thermal Pad. Exposed die pad (EP) must be grounded."

## ONET4251PARGTT
designator U?
1 Gbps to 4.25 Gbps Limiting Amplifier with LOS and RSSI, 50dB, -40 to 85 degC, 16-Pin QFN (RGT), Green (RoHS & no Sb/Br); Manufacturer: Texas Instruments; PartNumber: ONET4251PARGTT; Data Rate(Typ)(Gbps): 4.25; Disable: TRUE; DJ(Typ)(ps): 6; Gain(Typ)(dB): 50; ICC(Max)(mA): 40; ICC(Nom)(mA): 27; RJ(Max)(ps): 1; tf(Typ)(ps): 35; VCC(V): 3.3; Vin Max(Min)(mV p-p): 1200; DatasheetVersion: SLLS663A; PackageVersion: revH, Oct-2011; PackageReference: RGT16-1450X1450TP; PackageDescription: 16-Pin Plastic Quad Flat No-Lead, 3 x 3 mm Body, 0.5 mm Pitch, 1.45 x 1.45 mm Exposed Pad; Supplier 1: Digi-Key; Supplier Part Number 1: ONET4251PARGTT-ND; Supplier 2: Newark; Supplier Part Number 2: 66K3978; Supplier 3: Mouser; Supplier Part Number 3: 595-ONET4251PARGTT; Eco-Plan: Green (RoHS & no Sb/Br); LOS: TRUE; SubFamily: Limiting Amplifier; tr(Typ)(ps): 35; Vin Min(Nom)(mV p-p): 50; Mounting Technology: Surface Mount; Code_JEDEC: MO-220; ComponentLink1Description: Datasheet; ComponentLink1URL: http://www.ti.com/general/docs/lit/getliterature.tsp?genericPartNumber=ONET4251PA&fileType=pdf; ComponentLink2Description: URL Link1; ComponentLink2URL: SamplesURL:http://www.ti.com/product/onet4251pa#samples
footprint RGT16-1450X1450TP (QFN, 16-Leads, Body 3x3mm, Pitch 0.5mm, Thermal Pad 1.45x1.45mm, TI Recommended)
pins: 1 VCC (power) "3.3-V +/-10% supply voltage", 2 DIN+ (in) "Non-inverted data input. On-chip 50-ohm terminated to VCC.", 3 DIN- (in) "Inverted data input. On-chip 50-ohm terminated to VCC.", 4 VCC (power) "3.3-V +/-10% supply voltage", 5 TH (in) "LOS threshold adjustment with resistor to GND.", 6 DISABLE (in) "Disables CML output stage when set to high level.", 7 LOS (out) "High level indicates that the input signal amplitude is below the programmed threshold level.", 8 GND (power) "Circuit ground.", 9 OUTPOL (in) "Output data signal polarity select (internally pulled high). Setting to a high level or leaving the pin open selects normal polarity. Low level selects inverted polarity.", 10 DOUT- (out) "Inverted data output. On-chip 50-ohm back-terminated to VCC.", 11 DOUT+ (out) "Non-inverted data input. On-chip 50-ohm terminated to VCC.", 12 VCC (power) "3.3-V +/-10% supply voltage", 13 RSSI (out) "Analog output voltage proportional to the input data amplitude. Indicates the strength of the received signal (RSSI).", 14 COC1 "Offset cancellation filter capacitor terminal 1. Connect an additional filter capacitor between this pin and COC2 (pin 15). [see datasheet]", 15 COC2 "Offset cancellation filter capacitor terminal 1. Connect an additional filter capacitor between this pin and COC1 (pin 14). [see datasheet]", 16 GND (power) "Circuit ground.", 17 EP (power) "Exposed Thermal Pad. Exposed die pad (EP) must be grounded."

## ONET4251PARGTTG4
designator U?
1 Gbps to 4.25 Gbps Limiting Amplifier with LOS and RSSI, 50dB, -40 to 85 degC, 16-Pin QFN (RGT), Green (RoHS & no Sb/Br); Manufacturer: Texas Instruments; PartNumber: ONET4251PARGTTG4; Data Rate(Typ)(Gbps): 4.25; Disable: TRUE; DJ(Typ)(ps): 6; Gain(Typ)(dB): 50; ICC(Max)(mA): 40; ICC(Nom)(mA): 27; RJ(Max)(ps): 1; tf(Typ)(ps): 35; VCC(V): 3.3; Vin Max(Min)(mV p-p): 1200; DatasheetVersion: SLLS663A; PackageVersion: revH, Oct-2011; PackageReference: RGT16-1450X1450TP; PackageDescription: 16-Pin Plastic Quad Flat No-Lead, 3 x 3 mm Body, 0.5 mm Pitch, 1.45 x 1.45 mm Exposed Pad; Supplier 1: Digi-Key; Supplier Part Number 1: ONET4251PARGTTG4-ND; Supplier 2: Newark; Supplier Part Number 2: 66K3979; Supplier 3: Mouser; Supplier Part Number 3: 595-ONET4251PARGTTG4; Eco-Plan: Green (RoHS & no Sb/Br); LOS: TRUE; SubFamily: Limiting Amplifier; tr(Typ)(ps): 35; Vin Min(Nom)(mV p-p): 50; Mounting Technology: Surface Mount; Code_JEDEC: MO-220; ComponentLink1Description: Datasheet; ComponentLink1URL: http://www.ti.com/general/docs/lit/getliterature.tsp?genericPartNumber=ONET4251PA&fileType=pdf; ComponentLink2Description: URL Link1; ComponentLink2URL: SamplesURL:http://www.ti.com/product/onet4251pa#samples
footprint RGT16-1450X1450TP (QFN, 16-Leads, Body 3x3mm, Pitch 0.5mm, Thermal Pad 1.45x1.45mm, TI Recommended)
pins: 1 VCC (power) "3.3-V +/-10% supply voltage", 2 DIN+ (in) "Non-inverted data input. On-chip 50-ohm terminated to VCC.", 3 DIN- (in) "Inverted data input. On-chip 50-ohm terminated to VCC.", 4 VCC (power) "3.3-V +/-10% supply voltage", 5 TH (in) "LOS threshold adjustment with resistor to GND.", 6 DISABLE (in) "Disables CML output stage when set to high level.", 7 LOS (out) "High level indicates that the input signal amplitude is below the programmed threshold level.", 8 GND (power) "Circuit ground.", 9 OUTPOL (in) "Output data signal polarity select (internally pulled high). Setting to a high level or leaving the pin open selects normal polarity. Low level selects inverted polarity.", 10 DOUT- (out) "Inverted data output. On-chip 50-ohm back-terminated to VCC.", 11 DOUT+ (out) "Non-inverted data input. On-chip 50-ohm terminated to VCC.", 12 VCC (power) "3.3-V +/-10% supply voltage", 13 RSSI (out) "Analog output voltage proportional to the input data amplitude. Indicates the strength of the received signal (RSSI).", 14 COC1 "Offset cancellation filter capacitor terminal 1. Connect an additional filter capacitor between this pin and COC2 (pin 15). [see datasheet]", 15 COC2 "Offset cancellation filter capacitor terminal 1. Connect an additional filter capacitor between this pin and COC1 (pin 14). [see datasheet]", 16 GND (power) "Circuit ground.", 17 EP (power) "Exposed Thermal Pad. Exposed die pad (EP) must be grounded."

## ONET4291PARGVR
designator U?
1-Gbps to 4.25-Gbps Rate-Selectable Limiting Amplifier, 42dB, -40 to 85 degC, 16-Pin VQFN (RGV), Green (RoHS & no Sb/Br); Manufacturer: Texas Instruments; PartNumber: ONET4291PARGVR; Bandwidth Select: TRUE; DJ(Typ)(ps): 5; Gain(Typ)(dB): 42; ICC(Max)(mA): 64; ICC(Nom)(mA): 36; RJ(Max)(ps): 1.5; tf(Typ)(ps): 45; VCC(V): 3.3; Vin Max(Min)(mV p-p): 2000; Vin Min(Nom)(mV p-p): 2.5; DatasheetVersion: SLLS671; PackageVersion: revF, Jun-2011; PackageReference: RGV16-2160X2160TP; PackageDescription: 16-Pin Plastic Quad Flat No-Lead, 4 x 4 mm Body, 0.65 mm Pitch, 2.16 x 2.16 mm Exposed Pad; Supplier 1: Digi-Key; Supplier Part Number 1: 296-18691-2-ND; Supplier 2: Digi-Key; Supplier Part Number 2: 296-18691-1-ND; Supplier 3: Digi-Key; Supplier Part Number 3: 296-18691-6-ND; Supplier 4: Newark; Supplier Part Number 4: 57K1185; Supplier 5: Mouser; Supplier Part Number 5: 595-ONET4291PARGVR; Data Rate(Typ)(Gbps): 1-4.25; Eco-Plan: Green (RoHS & no Sb/Br); LOS: TRUE; SubFamily: Limiting Amplifier; tr(Typ)(ps): 45; Mounting Technology: Surface Mount; ComponentLink1Description: Datasheet; ComponentLink1URL: http://www.ti.com/general/docs/lit/getliterature.tsp?genericPartNumber=ONET4291PA&fileType=pdf; ComponentLink2Description: URL Link1; ComponentLink2URL: SamplesURL:http://www.ti.com/product/onet4291pa#samples
footprint RGV16-2160X2160TP (QFN, 16-Leads, Body 4x4mm, Pitch 0.65mm, Thermal Pad 2.16x2.16mm, TI Recommended)
pins: 1 LOS (oc) "High level indicates that the input signal amplitude is below the programmed threshold level.Open-drain output. Requires an external 10-k ohm pullup resistor to VCC for proper operation.", 2 SD (out) "High level indicates that sufficient input signal amplitude is applied to the device. Low level indicates that the input signal amplitude is below the progranned threshold level.", 3 SCK (in) "Two-wire interface serial clock. Includes a 100-k ohm pullup resistor to VCC.", 4 SDA (in) "Two-wire interface serial data input. Includes a 100-k ohm pullup resistor to VCC.", 5 COC- "Offset cancellation filter capacitor minus terminal. An external 0.1-uF filter capacitor must be connectde between this terminal and COC+ (terminal 6)", 6 COC+ "Offset cancellation filter capacitor plus terminal. An external 0.1-uF filter capacitor must be connected between this terminal and COC- (terminal 5)", 7 DIN+ (in) "Non-inverted data input. On-chip 50-ohm terminated to COC+. Differentially 100-ohm terminated to DIN-", 8 DIN- (in) "Inverted data input. On-chip 50-ohm terminated to COC-. Differentially 100-ohm terminated to to DIN+", 9 RTHI "Digitally controlled internal resistor to ground, which can be used for LOS threshold adjustment. A 6-bit-wide control register can be set via the two-wire interface.", 10 TH (in) "LOS threshold adjustment with resistor to GND. For use of the internal digitally controlled resistor,connect TH with RTHI (terminal 9)", 11 VCC (power) "3.3V, +10%/-12% supply voltage", 12 VCC (power) "3.3V, +10%/-12% supply voltage", 13 GND (power) "Circuit ground", 14 DOUT- (out) "Inverted data output. On-chip 50-ohm back-terminated to VCC.", 15 DOUT+ (out) "Non-inverted data output. On-chip 50-ohm back-terminated to VCC.", 16 GND (power) "Circuit ground", 17 EP (power) "Exposed die pad (EP) must be grounded."

## ONET4291PARGVRG4
designator U?
1-Gbps to 4.25-Gbps Rate-Selectable Limiting Amplifier, 42dB, -40 to 85 degC, 16-Pin VQFN (RGV), Green (RoHS & no Sb/Br); Manufacturer: Texas Instruments; PartNumber: ONET4291PARGVRG4; Bandwidth Select: TRUE; DJ(Typ)(ps): 5; Gain(Typ)(dB): 42; ICC(Max)(mA): 64; ICC(Nom)(mA): 36; RJ(Max)(ps): 1.5; tf(Typ)(ps): 45; VCC(V): 3.3; Vin Max(Min)(mV p-p): 2000; Vin Min(Nom)(mV p-p): 2.5; DatasheetVersion: SLLS671; PackageVersion: revF, Jun-2011; PackageReference: RGV16-2160X2160TP; PackageDescription: 16-Pin Plastic Quad Flat No-Lead, 4 x 4 mm Body, 0.65 mm Pitch, 2.16 x 2.16 mm Exposed Pad; Supplier 1: Digi-Key; Supplier Part Number 1: ONET4291PARGVRG4-ND; Supplier 2: Newark; Supplier Part Number 2: 63K6040; Supplier 3: Mouser; Supplier Part Number 3: 595-ONET4291PARGVRG4; Data Rate(Typ)(Gbps): 1-4.25; Eco-Plan: Green (RoHS & no Sb/Br); LOS: TRUE; SubFamily: Limiting Amplifier; tr(Typ)(ps): 45; Mounting Technology: Surface Mount; ComponentLink1Description: Datasheet; ComponentLink1URL: http://www.ti.com/general/docs/lit/getliterature.tsp?genericPartNumber=ONET4291PA&fileType=pdf; ComponentLink2Description: URL Link1; ComponentLink2URL: SamplesURL:http://www.ti.com/product/onet4291pa#samples
footprint RGV16-2160X2160TP (QFN, 16-Leads, Body 4x4mm, Pitch 0.65mm, Thermal Pad 2.16x2.16mm, TI Recommended)
pins: 1 LOS (oc) "High level indicates that the input signal amplitude is below the programmed threshold level.Open-drain output. Requires an external 10-k ohm pullup resistor to VCC for proper operation.", 2 SD (out) "High level indicates that sufficient input signal amplitude is applied to the device. Low level indicates that the input signal amplitude is below the progranned threshold level.", 3 SCK (in) "Two-wire interface serial clock. Includes a 100-k ohm pullup resistor to VCC.", 4 SDA (in) "Two-wire interface serial data input. Includes a 100-k ohm pullup resistor to VCC.", 5 COC- "Offset cancellation filter capacitor minus terminal. An external 0.1-uF filter capacitor must be connectde between this terminal and COC+ (terminal 6)", 6 COC+ "Offset cancellation filter capacitor plus terminal. An external 0.1-uF filter capacitor must be connected between this terminal and COC- (terminal 5)", 7 DIN+ (in) "Non-inverted data input. On-chip 50-ohm terminated to COC+. Differentially 100-ohm terminated to DIN-", 8 DIN- (in) "Inverted data input. On-chip 50-ohm terminated to COC-. Differentially 100-ohm terminated to to DIN+", 9 RTHI "Digitally controlled internal resistor to ground, which can be used for LOS threshold adjustment. A 6-bit-wide control register can be set via the two-wire interface.", 10 TH (in) "LOS threshold adjustment with resistor to GND. For use of the internal digitally controlled resistor,connect TH with RTHI (terminal 9)", 11 VCC (power) "3.3V, +10%/-12% supply voltage", 12 VCC (power) "3.3V, +10%/-12% supply voltage", 13 GND (power) "Circuit ground", 14 DOUT- (out) "Inverted data output. On-chip 50-ohm back-terminated to VCC.", 15 DOUT+ (out) "Non-inverted data output. On-chip 50-ohm back-terminated to VCC.", 16 GND (power) "Circuit ground", 17 EP (power) "Exposed die pad (EP) must be grounded."